# Altium footprint library WRL-13764.PcbLib: 1 footprints
Each footprint in its own frame and in the unit in brackets; x right, y up, seen from the top. Pads: shape width x height; smd on the part's side, far side on the other; paste and mask are expansions set on the pad; w line width, h text height; cw(c..) or ccw(c..) is an arc to the next point about the centre after c.
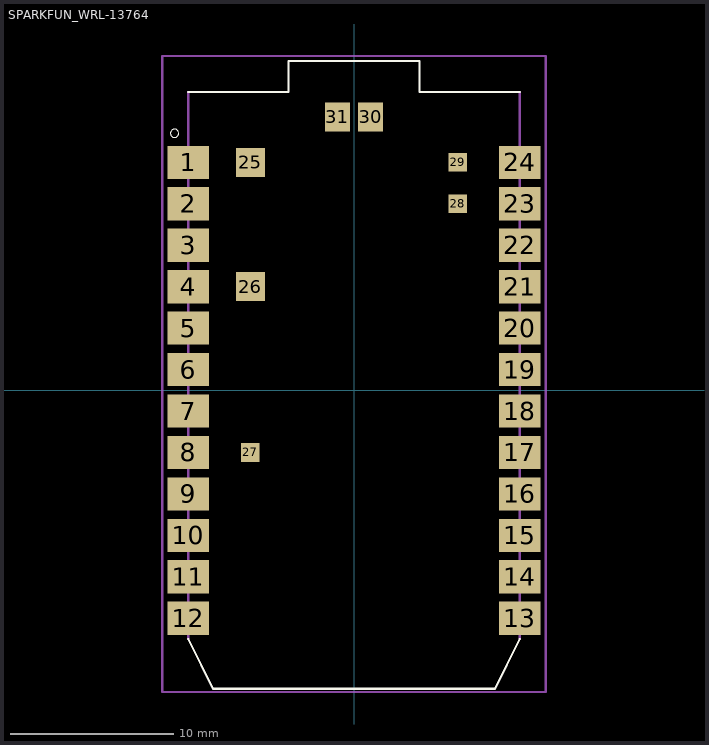
[diagram p0: the footprint, top view; thin cyan lines are the x and y axes]

## SPARKFUN_WRL-13764 [mil]
pads (31):
  rect 100x80 smd paste-1000 mask-1000: 1(-400,550) 2(-400,450) 3(-400,350) 4(-400,250) 5(-400,150) 6(-400,50) 7(-400,-50) 8(-400,-150) 9(-400,-250) 10(-400,-350) 11(-400,-450) 12(-400,-550) 13(400,-550) 14(400,-450) 15(400,-350) 16(400,-250) 17(400,-150) 18(400,-50) 19(400,50) 20(400,150) 21(400,250) 22(400,350) 23(400,450) 24(400,550)
  rect 70x70 smd paste-1000 mask-1000: 25(-250,550) 26(-250,250)
  rect 45x45 smd paste-1000 mask-1000: 27(-250,-150) 28(250,450) 29(250,550)
  rect 60x70 smd paste-1000 mask-1000: 30(40,660) 31(-40,660)
Top Overlay:
  circle w0: c-433.07,620.08 r10
  lines w5: -400,-600 -340,-720 340,-720 400,-600 ; -400,720 -158,720 -158,795 158,795 158,720 400,720
Top Paste:
  region: 227.5,427.5 272.5,427.5 272.5,472.5 227.5,472.5
  region: 227.5,527.5 272.5,527.5 272.5,572.5 227.5,572.5
  region: 10,625 70,625 70,695 10,695
  region: -70,625 -10,625 -10,695 -70,695
  region: -285,515 -215,515 -215,585 -285,585
  region: -285,215 -215,215 -215,285 -285,285
  region: -272.5,-172.5 -227.5,-172.5 -227.5,-127.5 -272.5,-127.5
  region: 350,-590 450,-590 450,-510 350,-510
  region: 350,-490 450,-490 450,-410 350,-410
  region: 350,-390 450,-390 450,-310 350,-310
  region: 350,-290 450,-290 450,-210 350,-210
  region: 350,-190 450,-190 450,-110 350,-110
  region: 350,-90 450,-90 450,-10 350,-10
  region: 350,10 450,10 450,90 350,90
  region: 350,110 450,110 450,190 350,190
  region: 350,210 450,210 450,290 350,290
  region: 350,310 450,310 450,390 350,390
  region: 350,410 450,410 450,490 350,490
  region: 350,510 450,510 450,590 350,590
  region: -450,-590 -350,-590 -350,-510 -450,-510
  region: -450,-490 -350,-490 -350,-410 -450,-410
  region: -450,-390 -350,-390 -350,-310 -450,-310
  region: -450,-290 -350,-290 -350,-210 -450,-210
  region: -450,-190 -350,-190 -350,-110 -450,-110
  region: -450,-90 -350,-90 -350,-10 -450,-10
  region: -450,10 -350,10 -350,90 -450,90
  region: -450,110 -350,110 -350,190 -450,190
  region: -450,210 -350,210 -350,290 -450,290
  region: -450,310 -350,310 -350,390 -450,390
  region: -450,410 -350,410 -350,490 -450,490
  region: -450,510 -350,510 -350,590 -450,590
Top Solder:
  region: 223.56,423.56 276.44,423.56 276.44,476.44 223.56,476.44
  region: 223.56,523.56 276.44,523.56 276.44,576.44 223.56,576.44
  region: 6.06,621.06 73.94,621.06 73.94,698.94 6.06,698.94
  region: -73.94,621.06 -6.06,621.06 -6.06,698.94 -73.94,698.94
  region: -288.94,511.06 -211.06,511.06 -211.06,588.94 -288.94,588.94
  region: -288.94,211.06 -211.06,211.06 -211.06,288.94 -288.94,288.94
  region: -276.44,-176.44 -223.56,-176.44 -223.56,-123.56 -276.44,-123.56
  region: 346.06,-593.94 453.94,-593.94 453.94,-506.06 346.06,-506.06
  region: 346.06,-493.94 453.94,-493.94 453.94,-406.06 346.06,-406.06
  region: 346.06,-393.94 453.94,-393.94 453.94,-306.06 346.06,-306.06
  region: 346.06,-293.94 453.94,-293.94 453.94,-206.06 346.06,-206.06
  region: 346.06,-193.94 453.94,-193.94 453.94,-106.06 346.06,-106.06
  region: 346.06,-93.94 453.94,-93.94 453.94,-6.06 346.06,-6.06
  region: 346.06,6.06 453.94,6.06 453.94,93.94 346.06,93.94
  region: 346.06,106.06 453.94,106.06 453.94,193.94 346.06,193.94
  region: 346.06,206.06 453.94,206.06 453.94,293.94 346.06,293.94
  region: 346.06,306.06 453.94,306.06 453.94,393.94 346.06,393.94
  region: 346.06,406.06 453.94,406.06 453.94,493.94 346.06,493.94
  region: 346.06,506.06 453.94,506.06 453.94,593.94 346.06,593.94
  region: -453.94,-593.94 -346.06,-593.94 -346.06,-506.06 -453.94,-506.06
  region: -453.94,-493.94 -346.06,-493.94 -346.06,-406.06 -453.94,-406.06
  region: -453.94,-393.94 -346.06,-393.94 -346.06,-306.06 -453.94,-306.06
  region: -453.94,-293.94 -346.06,-293.94 -346.06,-206.06 -453.94,-206.06
  region: -453.94,-193.94 -346.06,-193.94 -346.06,-106.06 -453.94,-106.06
  region: -453.94,-93.94 -346.06,-93.94 -346.06,-6.06 -453.94,-6.06
  region: -453.94,6.06 -346.06,6.06 -346.06,93.94 -453.94,93.94
  region: -453.94,106.06 -346.06,106.06 -346.06,193.94 -453.94,193.94
  region: -453.94,206.06 -346.06,206.06 -346.06,293.94 -453.94,293.94
  region: -453.94,306.06 -346.06,306.06 -346.06,393.94 -453.94,393.94
  region: -453.94,406.06 -346.06,406.06 -346.06,493.94 -453.94,493.94
  region: -453.94,506.06 -346.06,506.06 -346.06,593.94 -453.94,593.94
Mechanical 1:
  lines w5: -400,-600 -400,720 ; 400,-600 400,720 ; -462.6,-728.35 -462.6,807.09 462.6,807.09 462.6,-728.35 -462.6,-728.35